# Altium schematic symbol library SS1P3L-M384A.SchLib: 1 symbol
Pins are listed as number, name and electrical type; pins without a type are passive.

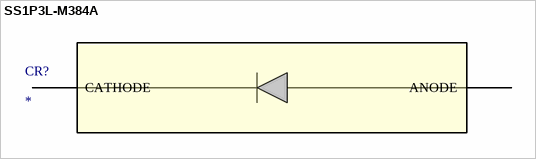
[diagram p0: symbol SS1P3L-M384A]

## SS1P3L-M384A
designator CR?
No Description Available; Mfr_Name: Vishay; RefDes: RefDes; Type: Type
footprint DIODE_SS1P3L-M384A_VIS
pins: 1 CATHODE, 2 ANODE